# Altium schematic symbol library NEUDOSE-Components.SchLib: 26 symbols
Pins are listed as number, name and electrical type; pins without a type are passive.

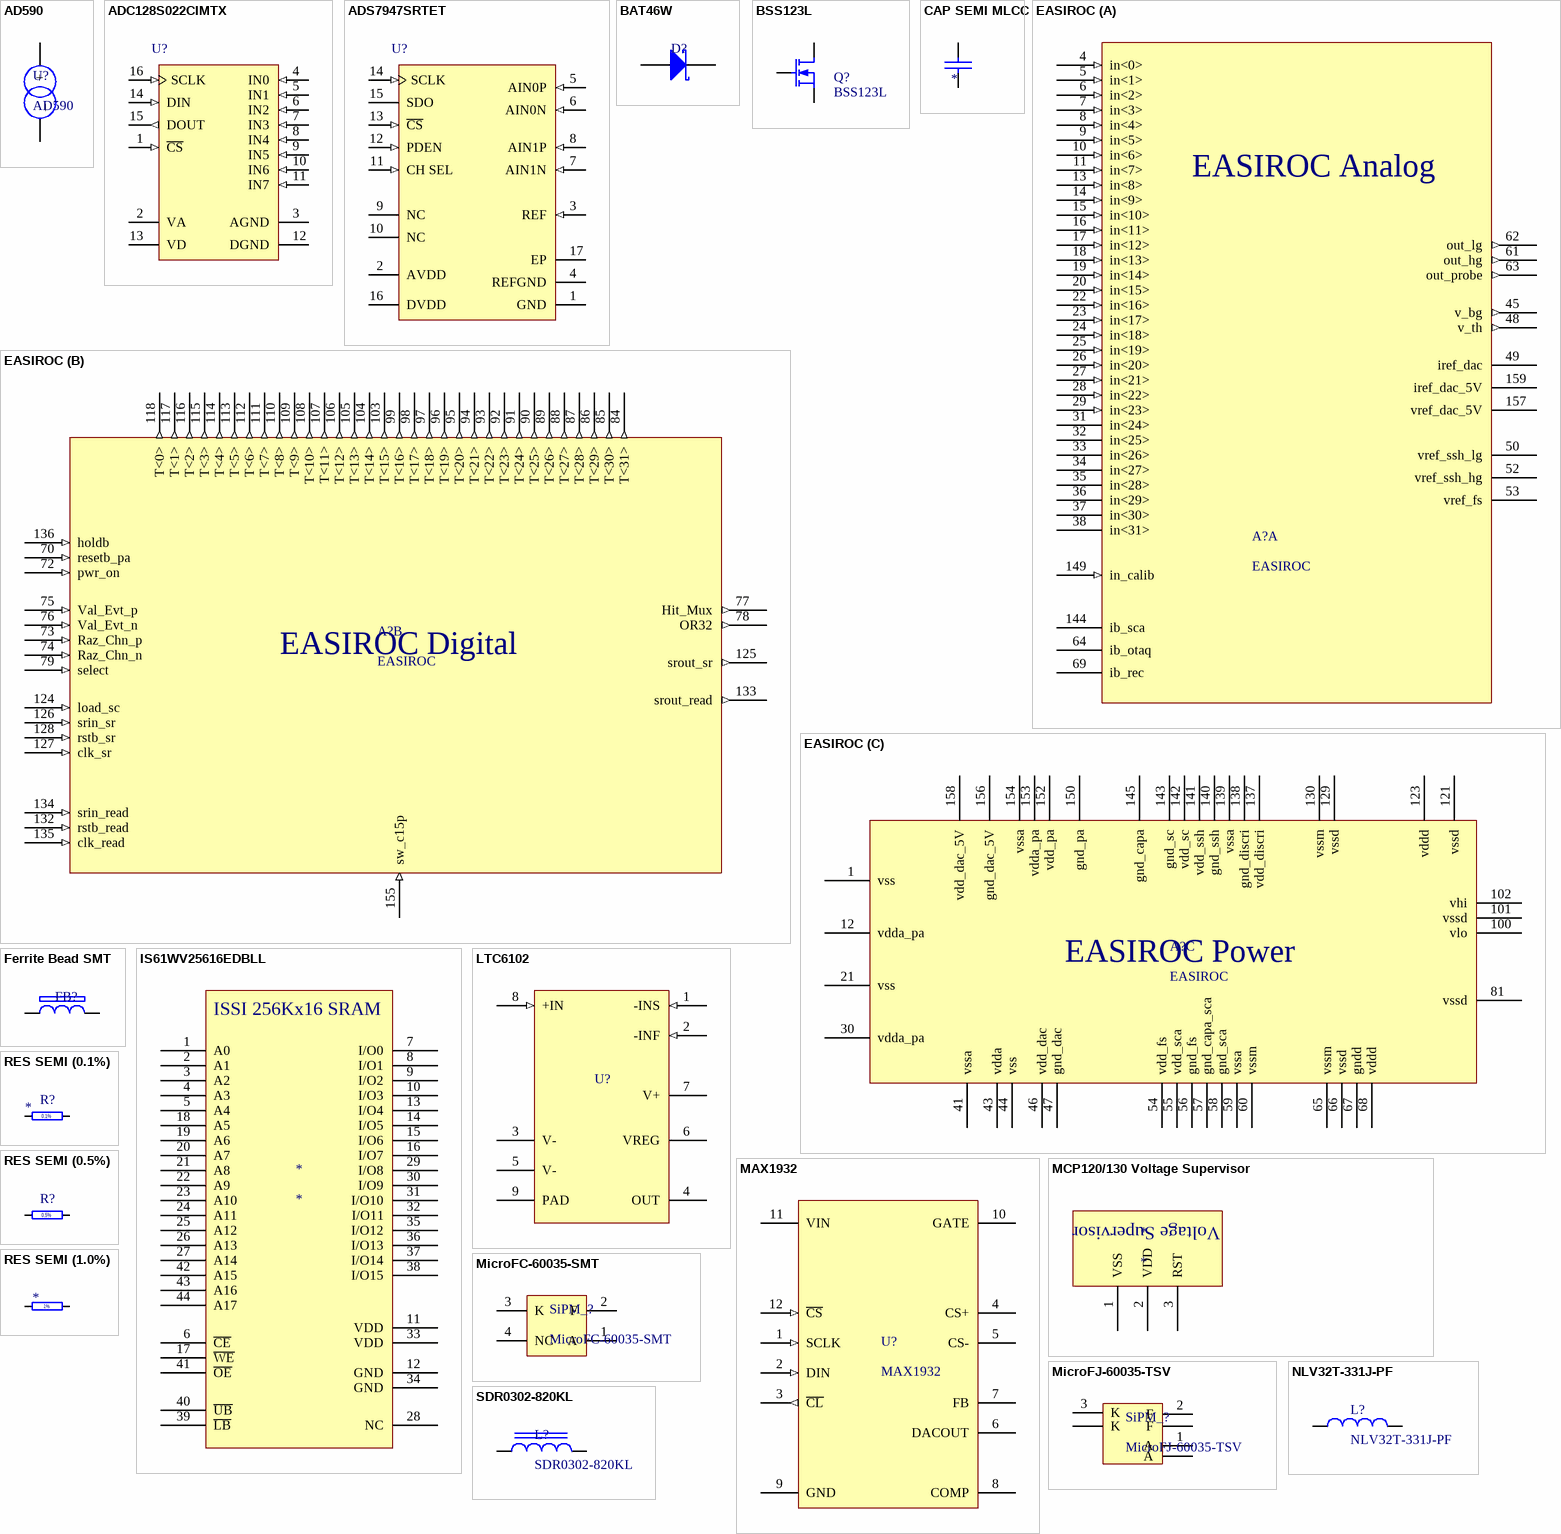
[diagram p0: symbols AD590 to SDR0302-820KL]

## AD590
designator U?
Manufacturer: Analog Devices Inc.; Manufacturer Part Number: AD590LF; Sensor Type: Analog, Local; Sensing Temperature - Local: -55°C ~ 150°C; Output Type: Ratiometric, Current; Voltage - Supply: 4 V ~ 30 V; Accuracy - Highest (Lowest): ±1°C; Test Condition: 25°C; Supplier 1: Digi-Key; RoHS: RoHS Compliant; Category: Sensors, Transducers; Stock 1: 612; Pricing 1: 1=47.63, 10=44.438, 100=38.5838, 500=35.39064, 1000=34.06016, 2500=33.612 (USD); Packaging: Tube; Sensing Temperature - Remote: -; Resolution: -; Features: -; Operating Temperature: -55°C ~ 125°C; Package / Case: 2-Ceramic FLATPACK; Supplier Device Package: 2-Flatpack; ComponentLink1URL: http://www.analog.com/media/en/technical-documentation/data-sheets/AD590.pdf; ComponentLink1Description: http://www.analog.com/media/en/technical-documentation/data-sheets/AD590.pdf; Supplier Part Number 1: AD590LF-ND
footprint AD590JF/AD590KF/AD590LF/AD590MF (SENSOR TEMP RATIOMETRIC 2-Ceramic FLATPACK)
pins: 1 + (oc), 2 _ (oc)

## ADC128S022CIMTX
designator U?
8-Channel, 50 kSPS to 200 kSPS, 12-Bit A/D Converter, 16-pin TSSOP; PartNumber: ADC128S022CIMTX; Manufacturer: National Semiconductor; PackageTopMarking: NSUZXYTT*128S022*CIMT; PowerWise: Y; CompType: ADC IC; DatasheetVersion: Feb-2010; PackageVersion: revD, Jun-2003; PackageReference: MTC16; PackageDescription: Molded TSSOP, Jedec, 5 x 4.4 x 0.9mm Body, 16 Lead, 0.65mm Pitch; RoHS: N; PinCount: 16; High-Reliability: Y; Code_JEDEC: MO-153-AB; ComponentLink1Description: ADC128S022 Datasheet; ComponentLink1URL: http://www.national.com/ds/AD/ADC128S022.pdf; ComponentLink2Description: ADC128S022 Web Page; ComponentLink2URL: http://www.national.com/pf/AD/ADC128S022.html; ComponentLink3Description: MTC16 Package Page; ComponentLink3URL: http://www.national.com/packaging/folders/mtc16.html
footprint TSSOP_16_N (TSOP, 16-Leads, Body 5x4.4mm, Pitch 0.65mm, IPC Medium Density)
footprint TSSOP_16_M (TSOP, 16-Leads, Body 5x4.4mm, Pitch 0.65mm, IPC Low Density)
footprint TSSOP_16_L (TSOP, 16-Leads, Body 5x4.4mm, Pitch 0.65mm, IPC High Density)
pins: 1 ~{CS} (in), 2 VA (power), 3 AGND (power), 4 IN0 (in), 5 IN1 (in), 6 IN2 (in), 7 IN3 (in), 8 IN4 (in), 9 IN5 (in), 10 IN6 (in), 11 IN7 (in), 12 DGND (power), 13 VD (power), 14 DIN (in), 15 DOUT (out), 16 SCLK (in)

## ADS7947SRTET
designator U?
12-Bit, 2 MSPS, Dual Channel, Pseudo-Differential uPower Serial SAR ADC, -40 to 125 degC, 16-pin QFN (RTE16), Green (RoHS & no Sb/Br); Manufacturer: Texas Instruments; PartNumber: ADS7947SRTET; # Input Channels: 2; Analog Voltage AV/DD(Max)(V): 5.5; Analog Voltage AV/DD(Min)(V): 2.7; Digital Supply(Min)(V): 1.65; INL(Max)(+/-LSB): 1; Resolution(Bits): 12; Sample Rate (max)(SPS): 2M; SFDR(dB): 86; SINAD(dB): 72.75; SNR(dB): 73; SubFamily: Precision ADC (<=10MSPS); DatasheetVersion: SLAS708; PackageVersion: 4205254/D, 01/2011; PackageReference: RTE16-1700X1700TP; PackageDescription: 16-Pin Plastic Flat Pack, Body 3 x 3 mm, Pitch 0.5 mm; Supplier 1: Digi-Key; Supplier Part Number 1: ADS7844NB/1KG4-ND; Supplier 2: Mouser; Supplier Part Number 2: 595-ADS7844NB/1KG4; Architecture: SAR; Digital Supply(Max)(V): 5.5; Eco-Plan: Green (RoHS & no Sb/Br); Mounting Technology: Surface Mount; Code_JEDEC: MO-220; ComponentLink1Description: Manufacturer URL; ComponentLink1URL: http://www.ti.com/; ComponentLink2Description: Datasheet; ComponentLink2URL: http://www.ti.com/general/docs/lit/getliterature.tsp?genericPartNumber=ADS7947&fileType=pdf; ComponentLink3Description: Package Specification; ComponentLink3URL: http://www.ti.com/litv/pdf/mpqf149c
footprint TI-RTE16-1700X1700TP_V (QFN, 16-Leads, Body 3x3mm, Pitch 0.5mm, Thermal Pad 1.7x1.7mm)
pins: 1 GND (power) "Power supply ground; all analog and digital signals are referred with respect to this pin", 2 AVDD (power) "ADC power supply", 3 REF (in) "ADC positive reference input; decouple this pin with REFGND", 4 REFGND (power) "Reference return; short to analog ground plane", 5 AIN0P (in) "Positive analog input, channel 0", 6 AIN0N (in) "Negative analog input, channel 0", 7 AIN1N (in) "Negative analog input, channel 1", 8 AIN1P (in) "Positive analog input, channel 1", 9 NC "Not connected internally, it is recommended to externally short this pin to GND", 10 NC "Not connected internally, it is recommended to externally short this pin to GND", 11 CH SEL (in) "This pin selects the analog input channel. Low = Channel 0 High = Channel 1 It is recommended to change the channel within a window of one clock; from half a clock after the C\S\ falling edge. This change ensures the (See Datasheet)", 12 PDEN (in) "This pin enables a power-down feature if it is high at the C\S\ rising edge", 13 ~{CS} (in) "Chip select signal; active low", 14 SCLK (in) "Serial SPI clock", 15 SDO (hiz) "Serial data out", 16 DVDD (power) "Digital I/O supply", 17 EP

## BAT46W
designator D?  (value not drawn)
DIODE SCHOTTKY 100V 150MA SOD123; Manufacturer: Diodes Incorporated; Manufacturer Part Number: BAT46W-7-F; Current - Average Rectified (Io): 150mA (DC); Voltage - Forward (Vf) (Max) @ If: 450mV @ 10mA; Speed: Small Signal =< 200mA (Io), Any Speed; Current - Reverse Leakage @ Vr: 2µA @ 75V; Capacitance @ Vr, F: 20pF @ 0V, 1MHz; Supplier 1: Digi-Key; RoHS: RoHS Compliant; Category: Discrete Semiconductor Products; Stock 1: 67354; Pricing 1: 1=0.38, 10=0.283, 100=0.1764, 500=0.1206, 1000=0.0927 (USD); Packaging: Cut Tape (CT); Diode Type: Schottky; Voltage - DC Reverse (Vr) (Max): 100V; Reverse Recovery Time (trr): -; Mounting Type: Surface Mount; Package / Case: SOD-123; Supplier Device Package: SOD-123; Operating Temperature - Junction: -55°C ~ 125°C; ComponentLink1URL: http://www.diodes.com/_files/datasheets/ds30044.pdf; ComponentLink1Description: http://www.diodes.com/_files/datasheets/ds30044.pdf; Supplier Part Number 1: BAT46W-7FDICT-ND
footprint SOD-123 (SOD-123, 2-Leads, Body 1.60x3.70mm, IPC Low Density)
pins: 1 K, 2 A

## BSS123L
designator Q?
MOSFET N-CH 100V 0.17A SOT-23; Manufacturer: Fairchild Semiconductor; FET Type: MOSFET N-Channel, Metal Oxide; FET Feature: Logic Level Gate; Current - Continuous Drain (Id) @ 25°C: 170mA (Ta); Rds On (Max) @ Id, Vgs: 6 Ohm @ 170mA, 10V; Vgs(th) (Max) @ Id: 2V @ 1mA; Gate Charge (Qg) @ Vgs: 2.5nC @ 10V; Input Capacitance (Ciss) @ Vds: 21.5pF @ 25V; Power - Max: 360mW; Supplier 1: Digi-Key; Manufacturer Part Number: BSS123L; RoHS: RoHS Compliant; Category: Discrete Semiconductor Products; Stock 1: 4356; Pricing 1: 1=0.21, 10=0.189, 100=0.1032, 500=0.06342, 1000=0.04326 (USD); Packaging: Cut Tape (CT); Drain to Source Voltage (Vdss): 100V; Mounting Type: Surface Mount; Package / Case: TO-236-3, SC-59, SOT-23-3; Supplier Device Package: SOT-23-3; ComponentLink1URL: https://www.fairchildsemi.com/datasheets/BS/BSS123L.pdf; ComponentLink1Description: https://www.fairchildsemi.com/datasheets/BS/BSS123L.pdf; Supplier Part Number 1: BSS123LCT-ND
footprint SOT-23-3 (SOT23, 3-Leads, Body 2.90x2.45mm, Pitch 0.95mm, IPC Medium Density)
pins: 1 D, 2 G, 3 S

## CAP SEMI MLCC
designator C?
value: *
footprint CAP_0603 (Chip Capacitor, 2-Leads, Body 1.60x0.80mm, IPC Low Density)
footprint CAP_0805 (Chip Capacitor, 2-Leads, Body 2.00x1.25mm, IPC Low Density)
footprint CAP_1206 (Chip Capacitor, 2-Leads, Body 3.20x1.60mm, IPC Low Density)
footprint CAP_0402 (Chip Capacitor, 2-Leads, Body 1.00x0.50mm, IPC Low Density)
pins: 1, 2

## EASIROC
designator A?
footprint TQFP160-65P (TQFP (adapted from pqfp footprint), 160-Leads, Body 28.00x28.00mm, Pitch 0.65mm, IPC Medium Density)
part A pins: 4 in<0> (in), 5 in<1> (in), 6 in<2> (in), 7 in<3> (in), 8 in<4> (in), 9 in<5> (in), 10 in<6> (in), 11 in<7> (in), 13 in<8> (in), 14 in<9> (in), 15 in<10> (in), 16 in<11> (in), 17 in<12> (in), 18 in<13> (in), 19 in<14> (in), 20 in<15> (in), 22 in<16> (in), 23 in<17> (in), 24 in<18> (in), 25 in<19> (in), 26 in<20> (in), 27 in<21> (in), 28 in<22> (in), 29 in<23> (in), 31 in<24> (power), 32 in<25> (power), 33 in<26> (power), 34 in<27> (power), 35 in<28> (power), 36 in<29> (power), 37 in<30> (power), 38 in<31> (power), 45 v_bg (out), 48 v_th (out), 49 iref_dac, 50 vref_ssh_lg, 52 vref_ssh_hg, 53 vref_fs, 61 out_hg (out), 62 out_lg (out), 63 out_probe (out), 64 ib_otaq, 69 ib_rec, 144 ib_sca, 149 in_calib (in), 157 vref_dac_5V, 159 iref_dac_5V
part B pins: 70 resetb_pa (in), 72 pwr_on (in), 73 Raz_Chn_p (in), 74 Raz_Chn_n (in), 75 Val_Evt_p (in), 76 Val_Evt_n (in), 77 Hit_Mux (out), 78 OR32 (out), 79 select (in), 84 T<31> (out), 85 T<30> (out), 86 T<29> (out), 87 T<28> (out), 88 T<27> (out), 89 T<26> (out), 90 T<25> (out), 91 T<24> (out), 92 T<23> (out), 93 T<22> (out), 94 T<21> (out), 95 T<20> (out), 96 T<19> (out), 97 T<18> (out), 98 T<17> (out), 99 T<16> (out), 103 T<15> (out), 104 T<14> (out), 105 T<13> (out), 106 T<12> (out), 107 T<11> (out), 108 T<10> (out), 109 T<9> (out), 110 T<8> (out), 111 T<7> (out), 112 T<6> (out), 113 T<5> (out), 114 T<4> (out), 115 T<3> (out), 116 T<2> (out), 117 T<1> (out), 118 T<0> (out), 124 load_sc (in), 125 srout_sr (out), 126 srin_sr (in), 127 clk_sr (in), 128 rstb_sr (in), 132 rstb_read (in), 133 srout_read (out), 134 srin_read (in), 135 clk_read (in), 136 holdb (in), 155 sw_c15p (in)
part C pins: 1 vss (power), 12 vdda_pa (power), 21 vss (power), 30 vdda_pa (power), 41 vssa (power), 43 vdda (power), 44 vss (power), 46 vdd_dac (power), 47 gnd_dac (power), 54 vdd_fs (power), 55 vdd_sca (power), 56 gnd_fs (power), 57 gnd_capa_sca (power), 58 gnd_sca (power), 59 vssa (power), 60 vssm (power), 65 vssm (power), 66 vssd (power), 67 gndd (power), 68 vddd (power), 81 vssd (power), 100 vlo (power), 101 vssd (power), 102 vhi (power), 121 vssd (power), 123 vddd (power), 129 vssd (power), 130 vssm (power), 137 vdd_discri (power), 138 gnd_discri (power), 139 vssa (power), 140 gnd_ssh (power), 141 vdd_ssh (power), 142 vdd_sc (power), 143 gnd_sc (power), 145 gnd_capa (power), 150 gnd_pa (power), 152 vdd_pa (power), 153 vdda_pa (power), 154 vssa (power), 156 gnd_dac_5V (power), 158 vdd_dac_5V (power)
part A text: EASIROC Analog
part B text: EASIROC Digital
part C text: EASIROC Power

## Ferrite Bead SMT
designator FB?  (value not drawn)
footprint IND_0603 (Chip Inductor, 2-Leads, Body 1.60x0.82mm, IPC Low Density)
footprint IND_0805 (Chip Inductor, 2-Leads, Body 2.00x1.25mm, IPC Low Density)
footprint IND_1210 (Chip Inductor, 2-Leads, Body 3.20x2.50mm, IPC Low Density)
pins: 1, 2

## IS61WV25616EDBLL
designator *
pins: 1 A0, 2 A1, 3 A2, 4 A3, 5 A4, 6 ~{CE}, 7 I/O0, 8 I/O1, 9 I/O2, 10 I/O3, 11 VDD, 12 GND, 13 I/O4, 14 I/O5, 15 I/O6, 16 I/O7, 17 ~{WE}, 18 A5, 19 A6, 20 A7, 21 A8, 22 A9, 23 A10, 24 A11, 25 A12, 26 A13, 27 A14, 28 NC, 29 I/O8, 30 I/O9, 31 I/O10, 32 I/O11, 33 VDD, 34 GND, 35 I/O12, 36 I/O13, 37 I/O14, 38 I/O15, 39 ~{LB}, 40 ~{UB}, 41 ~{OE}, 42 A15, 43 A16, 44 A17
text: ISSI 256Kx16 SRAM

## LTC6102
designator U?  (value not drawn)
IC OPAMP CURR SENSE 200KHZ 8DFN; Manufacturer: Linear Technology; Manufacturer Part Number: LTC6102HDD#PBF; Amplifier Type: Current Sense; Number of Circuits: 1; Current - Input Bias: 60pA; Voltage - Input Offset: 3µV; Current - Supply: 420µA; Current - Output / Channel: 1mA; Voltage - Supply, Single/Dual (±): 4 V ~ 60 V; Supplier 1: Digi-Key; RoHS: RoHS Compliant; Category: Integrated Circuits (ICs); Stock 1: 161; Pricing 1: 1=4.57, 25=3.24, 100=2.68 (USD); Packaging: Tube; Output Type: -; Slew Rate: -; Gain Bandwidth Product: 200kHz; -3db Bandwidth: -; Operating Temperature: -40°C ~ 125°C; Mounting Type: Surface Mount; Package / Case: 8-WFDFN Exposed Pad; Supplier Device Package: 8-DFN (3x3); ComponentLink1URL: http://www.linear.com/docs/25174; ComponentLink1Description: http://www.linear.com/docs/25174; Supplier Part Number 1: LTC6102HDD#PBF-ND
footprint 8-WFDFN Exposed Pad (SON, 8-Leads, Body 3.00x3.00mm, Pitch 0.50mm, Thermal Pad 2.38x0.99mm, IPC Medium Density)
pins: 1 -INS (in), 2 -INF (in), 3 V- (power), 4 OUT (oc), 5 V- (power), 6 VREG (power), 7 V+ (power), 8 +IN (in), 9 PAD (power)

## MAX1932
designator U?
IC SUPPLY BIAS APD 12-TQFN; Manufacturer: Maxim Integrated; Manufacturer Part Number: MAX1932ETC+T; Voltage - Input: 2.7 V ~ 5.5 V; Number of Outputs: 1; Voltage - Output: 4.5 V ~ 90 V; Supplier 1: Digi-Key; RoHS: RoHS Compliant; Category: Integrated Circuits (ICs); Stock 1: 2447; Pricing 1: 1=11.03, 10=10.404, 25=8.3232, 50=7.907, 100=7.2828, 250=6.90824, 500=6.65856 (USD); Packaging: Cut Tape (CT); Applications: Controller, Fiber Optic Network; Operating Temperature: -40°C ~ 85°C; Mounting Type: Surface Mount; Package / Case: 12-WQFN Exposed Pad; Supplier Device Package: 12-TQFN (4x4); ComponentLink1URL: http://datasheets.maximintegrated.com/en/ds/MAX1932.pdf; ComponentLink1Description: http://datasheets.maximintegrated.com/en/ds/MAX1932.pdf; Supplier Part Number 1: MAX1932ETC+TCT-ND
footprint QFN80P400X400X75_HS-13N (QFN, 12-Leads, Body 4.00x4.00mm, Pitch 0.80mm, Thermal Pad 2.23x2.23mm, IPC Medium Density)
pins: 1 SCLK (in), 2 DIN (in), 3 ~{CL} (out), 4 CS+, 5 CS-, 6 DACOUT, 7 FB, 8 COMP, 9 GND (power), 10 GATE, 11 VIN (power), 12 ~{CS} (in)

## MCP120/130 Voltage Supervisor
designator *
pins: 1 VSS "Xdir", 2 VDD "Xdir", 3 RST "Xdir"
text: Voltage Supervisor

## MicroFC-60035-SMT
designator SiPM_?
SensL C-Series 6mm SiPM with 35um microcells
footprint MicroFC-60035-SMT (SensL C-Series Micro-C Silicon Photomultipliers)
pins: 1 A (oc) "Anode", 2 F (oc) "Fast Output", 3 K (oc) "Cathode", 4 NC

## MicroFJ-60035-TSV
designator SiPM_?
SensL J-Series 6mm SiPM with 35um microcells
footprint MicroFJ-60035-TSV (SensL J-Series Micro-J Silicon Photomultipliers); pin to pad 1>C1 2>C6 3>A1 4>D1 5>D6 6>F6
pins: 1 A (oc) "Cathode", 2 F (oc) "Fast Output", 3 K (oc) "Anode", 4 A (oc) "Cathode", 5 F (oc) "Fast Output", 6 K (oc) "Anode"

## NLV32T-331J-PF
designator L?
FIXED IND 330UH 40MA 34 OHM SMD; Manufacturer: TDK Corporation; Type: Wirewound; Material - Core: Ferrite; Inductance: 330µH; Tolerance: ±5%; Shielding: Unshielded; DC Resistance (DCR): 34 Ohm Max; Q @ Freq: 20 @ 796kHz; Frequency - Self Resonant: 5MHz; Frequency - Test: 796kHz; Supplier 1: Digi-Key; Manufacturer Part Number: NLV32T-331J-PF; RoHS: RoHS Compliant; Category: Inductors, Coils, Chokes; Stock 1: 5790; Pricing 1: 1=0.27, 10=0.243, 50=0.1886, 100=0.1752, 500=0.15362, 1000=0.12397 (USD); Packaging: Cut Tape (CT); Current Rating: 40mA; Current - Saturation: -; Ratings: -; Operating Temperature: -40°C ~ 105°C; Mounting Type: Surface Mount; Package / Case: 1210 (3225 Metric); Size / Dimension: 0.126" L x 0.098" W (3.20mm x 2.50mm); Height - Seated (Max): 0.095" (2.40mm); ComponentLink1URL: https://product.tdk.com/info/en/catalog/datasheets/inductor_commercial_standard_nlv32-pf_en.pdf; ComponentLink1Description: https://product.tdk.com/info/en/catalog/datasheets/inductor_commercial_standard_nlv32-pf_en.pdf; Supplier Part Number 1: 445-1532-1-ND
footprint IND_1210 (Chip Inductor, 2-Leads, Body 3.20x2.50mm, IPC Low Density)
pins: 1, 2

## RES SEMI (0.1%)
designator R?
0.1%; value: *
footprint RES_0603 (Chip Resistor, 2-Leads, Body 1.60x0.82mm, IPC Low Density)
footprint RES_0805 (Chip Resistor, 2-Leads, Body 2.00x1.25mm, IPC Low Density)
footprint RES_1206 (Chip Resistor, 2-Leads, Body 3.20x1.60mm, IPC Low Density)
footprint RES_0402 (Chip Resistor, 2-Leads, Body 1.00x0.50mm)
pins: 1, 2

## RES SEMI (0.5%)
designator R?  (value not drawn)
0.5%
footprint RES_0603 (Chip Resistor, 2-Leads, Body 1.60x0.82mm, IPC Low Density)
footprint RES_0805 (Chip Resistor, 2-Leads, Body 2.00x1.25mm, IPC Low Density)
footprint RES_1206 (Chip Resistor, 2-Leads, Body 3.20x1.60mm, IPC Low Density)
footprint RES_0402 (Chip Resistor, 2-Leads, Body 1.00x0.50mm)
pins: 1, 2

## RES SEMI (1.0%)
designator R?
1.0%; value: *
footprint RES_0603 (Chip Resistor, 2-Leads, Body 1.60x0.82mm, IPC Low Density)
footprint RES_0805 (Chip Resistor, 2-Leads, Body 2.00x1.25mm, IPC Low Density)
footprint RES_1206 (Chip Resistor, 2-Leads, Body 3.20x1.60mm, IPC Low Density)
footprint RES_0402 (Chip Resistor, 2-Leads, Body 1.00x0.50mm)
pins: 1, 2
text: 1%

## SDR0302-820KL
designator L?
FIXED IND 82UH 280MA 2.1 OHM SMD; Manufacturer: Bourns Inc.; Type: Wirewound; Material - Core: Ferrite; Inductance: 82µH; Tolerance: ±10%; Current - Saturation: 300mA; Shielding: Unshielded; DC Resistance (DCR): 2.1 Ohm Max; Q @ Freq: 24 @ 2.52MHz; Frequency - Self Resonant: 12MHz; Frequency - Test: 1kHz; Supplier 1: Digi-Key; Manufacturer Part Number: SDR0302-820KL; RoHS: RoHS Compliant; Category: Inductors, Coils, Chokes; Stock 1: 5130; Pricing 1: 1=0.47, 10=0.416, 25=0.39, 50=0.338, 100=0.312, 250=0.2964, 500=0.2704, 1000=0.2288 (USD); Packaging: Cut Tape (CT); Current Rating: 280mA; Ratings: -; Operating Temperature: -40°C ~ 125°C; Mounting Type: Surface Mount; Package / Case: Nonstandard; Size / Dimension: 0.118" L x 0.110" W (3.00mm x 2.80mm); Height - Seated (Max): 0.110" (2.80mm); ComponentLink1URL: http://www.bourns.com/docs/Product-Datasheets/SDR0302.pdf; ComponentLink1Description: http://www.bourns.com/docs/Product-Datasheets/SDR0302.pdf; Supplier Part Number 1: SDR0302-820KLCT-ND
footprint IND_BOURNS_SDR03
pins: 1, 2

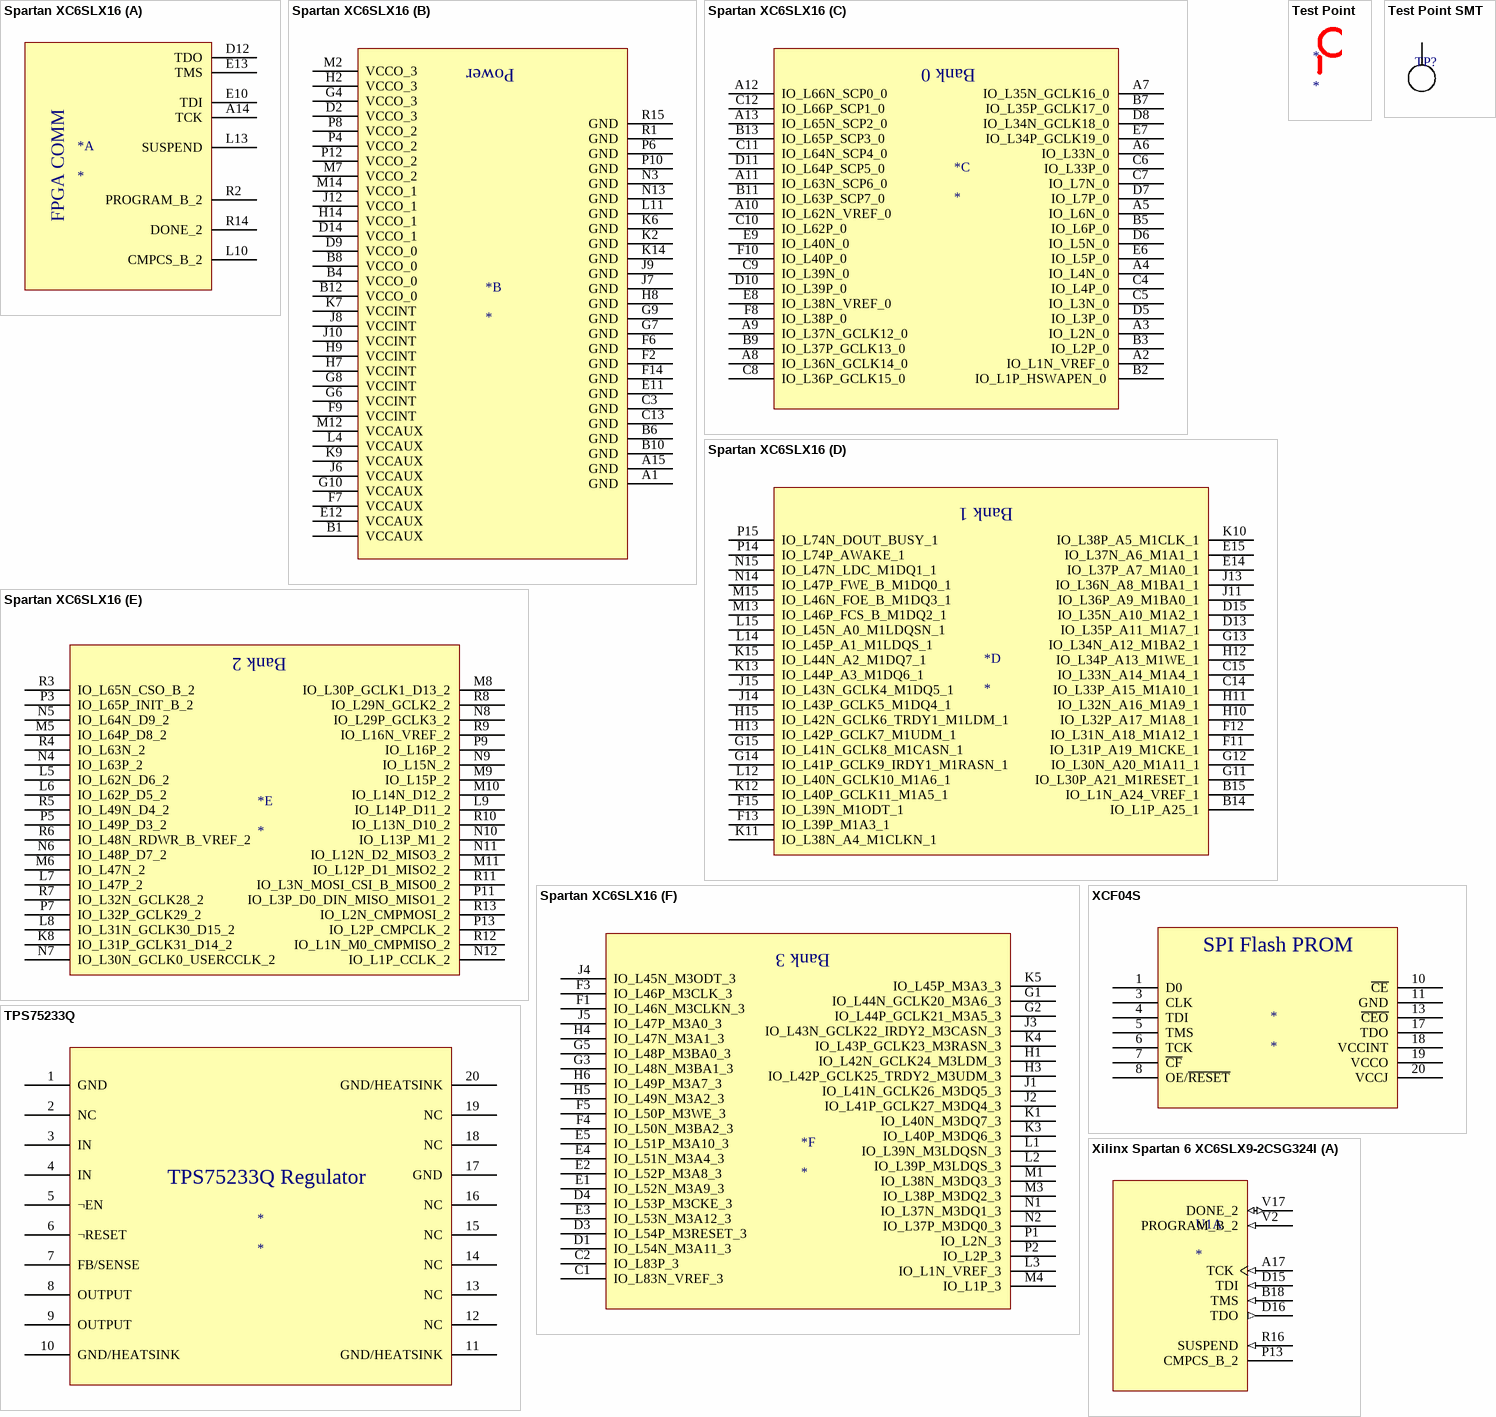
[diagram p1: symbols Spartan XC6SLX16 to Xilinx Spartan 6 XC6SLX9-2CSG324I]

## Spartan XC6SLX16
designator *
part A pins: A14 TCK, D12 TDO, E10 TDI, E13 TMS, L10 CMPCS_B_2, L13 SUSPEND, R2 PROGRAM_B_2, R14 DONE_2
part B pins: A1 GND, A15 GND, B1 VCCAUX, B4 VCCO_0, B6 GND, B8 VCCO_0, B10 GND, B12 VCCO_0, C3 GND, C13 GND, D2 VCCO_3, D9 VCCO_0, D14 VCCO_1, E11 GND, E12 VCCAUX, F2 GND, F6 GND, F7 VCCAUX, F9 VCCINT, F14 GND, G4 VCCO_3, G6 VCCINT, G7 GND, G8 VCCINT, G9 GND, G10 VCCAUX, H2 VCCO_3, H7 VCCINT, H8 GND, H9 VCCINT, H14 VCCO_1, J6 VCCAUX, J7 GND, J8 VCCINT, J9 GND, J10 VCCINT, J12 VCCO_1, K2 GND, K6 GND, K7 VCCINT, K9 VCCAUX, K14 GND, L4 VCCAUX, L11 GND, M2 VCCO_3, M7 VCCO_2, M12 VCCAUX, M14 VCCO_1, N3 GND, N13 GND, P4 VCCO_2, P6 GND, P8 VCCO_2, P10 GND, P12 VCCO_2, R1 GND, R15 GND
part C pins: A2 IO_L1N_VREF_0, A3 IO_L2N_0, A4 IO_L4N_0, A5 IO_L6N_0, A6 IO_L33N_0, A7 IO_L35N_GCLK16_0, A8 IO_L36N_GCLK14_0, A9 IO_L37N_GCLK12_0, A10 IO_L62N_VREF_0, A11 IO_L63N_SCP6_0, A12 IO_L66N_SCP0_0, A13 IO_L65N_SCP2_0, B2 IO_L1P_HSWAPEN_0 , B3 IO_L2P_0, B5 IO_L6P_0, B7 IO_L35P_GCLK17_0, B9 IO_L37P_GCLK13_0, B11 IO_L63P_SCP7_0, B13 IO_L65P_SCP3_0, C4 IO_L4P_0, C5 IO_L3N_0, C6 IO_L33P_0, C7 IO_L7N_0, C8 IO_L36P_GCLK15_0, C9 IO_L39N_0, C10 IO_L62P_0, C11 IO_L64N_SCP4_0, C12 IO_L66P_SCP1_0, D5 IO_L3P_0, D6 IO_L5N_0, D7 IO_L7P_0, D8 IO_L34N_GCLK18_0, D10 IO_L39P_0, D11 IO_L64P_SCP5_0, E6 IO_L5P_0, E7 IO_L34P_GCLK19_0, E8 IO_L38N_VREF_0, E9 IO_L40N_0, F8 IO_L38P_0, F10 IO_L40P_0
part D pins: B14 IO_L1P_A25_1, B15 IO_L1N_A24_VREF_1, C14 IO_L33P_A15_M1A10_1, C15 IO_L33N_A14_M1A4_1, D13 IO_L35P_A11_M1A7_1, D15 IO_L35N_A10_M1A2_1, E14 IO_L37P_A7_M1A0_1, E15 IO_L37N_A6_M1A1_1, F11 IO_L31P_A19_M1CKE_1, F12 IO_L31N_A18_M1A12_1, F13 IO_L39P_M1A3_1, F15 IO_L39N_M1ODT_1, G11 IO_L30P_A21_M1RESET_1, G12 IO_L30N_A20_M1A11_1, G13 IO_L34N_A12_M1BA2_1, G14 IO_L41P_GCLK9_IRDY1_M1RASN_1, G15 IO_L41N_GCLK8_M1CASN_1, H10 IO_L32P_A17_M1A8_1, H11 IO_L32N_A16_M1A9_1, H12 IO_L34P_A13_M1WE_1, H13 IO_L42P_GCLK7_M1UDM_1, H15 IO_L42N_GCLK6_TRDY1_M1LDM_1, J11 IO_L36P_A9_M1BA0_1, J13 IO_L36N_A8_M1BA1_1, J14 IO_L43P_GCLK5_M1DQ4_1, J15 IO_L43N_GCLK4_M1DQ5_1, K10 IO_L38P_A5_M1CLK_1, K11 IO_L38N_A4_M1CLKN_1, K12 IO_L40P_GCLK11_M1A5_1, K13 IO_L44P_A3_M1DQ6_1, K15 IO_L44N_A2_M1DQ7_1, L12 IO_L40N_GCLK10_M1A6_1, L14 IO_L45P_A1_M1LDQS_1, L15 IO_L45N_A0_M1LDQSN_1, M13 IO_L46P_FCS_B_M1DQ2_1, M15 IO_L46N_FOE_B_M1DQ3_1, N14 IO_L47P_FWE_B_M1DQ0_1, N15 IO_L47N_LDC_M1DQ1_1, P14 IO_L74P_AWAKE_1, P15 IO_L74N_DOUT_BUSY_1
part E pins: K8 IO_L31P_GCLK31_D14_2, L5 IO_L62N_D6_2, L6 IO_L62P_D5_2, L7 IO_L47P_2, L8 IO_L31N_GCLK30_D15_2, L9 IO_L14P_D11_2, M5 IO_L64P_D8_2, M6 IO_L47N_2, M8 IO_L30P_GCLK1_D13_2, M9 IO_L15P_2, M10 IO_L14N_D12_2, M11 IO_L12P_D1_MISO2_2, N4 IO_L63P_2, N5 IO_L64N_D9_2, N6 IO_L48P_D7_2, N7 IO_L30N_GCLK0_USERCCLK_2, N8 IO_L29P_GCLK3_2, N9 IO_L15N_2, N10 IO_L13P_M1_2, N11 IO_L12N_D2_MISO3_2, N12 IO_L1P_CCLK_2, P3 IO_L65P_INIT_B_2, P5 IO_L49P_D3_2, P7 IO_L32P_GCLK29_2, P9 IO_L16P_2, P11 IO_L3P_D0_DIN_MISO_MISO1_2, P13 IO_L2P_CMPCLK_2, R3 IO_L65N_CSO_B_2, R4 IO_L63N_2, R5 IO_L49N_D4_2, R6 IO_L48N_RDWR_B_VREF_2, R7 IO_L32N_GCLK28_2, R8 IO_L29N_GCLK2_2, R9 IO_L16N_VREF_2, R10 IO_L13N_D10_2, R11 IO_L3N_MOSI_CSI_B_MISO0_2, R12 IO_L1N_M0_CMPMISO_2, R13 IO_L2N_CMPMOSI_2
part F pins: C1 IO_L83N_VREF_3, C2 IO_L83P_3, D1 IO_L54N_M3A11_3, D3 IO_L54P_M3RESET_3, D4 IO_L53P_M3CKE_3, E1 IO_L52N_M3A9_3, E2 IO_L52P_M3A8_3, E3 IO_L53N_M3A12_3, E4 IO_L51N_M3A4_3, E5 IO_L51P_M3A10_3, F1 IO_L46N_M3CLKN_3, F3 IO_L46P_M3CLK_3, F4 IO_L50N_M3BA2_3, F5 IO_L50P_M3WE_3, G1 IO_L44N_GCLK20_M3A6_3, G2 IO_L44P_GCLK21_M3A5_3, G3 IO_L48N_M3BA1_3, G5 IO_L48P_M3BA0_3, H1 IO_L42N_GCLK24_M3LDM_3, H3 IO_L42P_GCLK25_TRDY2_M3UDM_3, H4 IO_L47N_M3A1_3, H5 IO_L49N_M3A2_3, H6 IO_L49P_M3A7_3, J1 IO_L41N_GCLK26_M3DQ5_3, J2 IO_L41P_GCLK27_M3DQ4_3, J3 IO_L43N_GCLK22_IRDY2_M3CASN_3, J4 IO_L45N_M3ODT_3, J5 IO_L47P_M3A0_3, K1 IO_L40N_M3DQ7_3, K3 IO_L40P_M3DQ6_3, K4 IO_L43P_GCLK23_M3RASN_3, K5 IO_L45P_M3A3_3, L1 IO_L39N_M3LDQSN_3, L2 IO_L39P_M3LDQS_3, L3 IO_L1N_VREF_3, M1 IO_L38N_M3DQ3_3, M3 IO_L38P_M3DQ2_3, M4 IO_L1P_3, N1 IO_L37N_M3DQ1_3, N2 IO_L37P_M3DQ0_3, P1 IO_L2N_3, P2 IO_L2P_3
part A text: FPGA COMM
part B text: Power
part C text: Bank 0
part D text: Bank 1
part E text: Bank 2
part F text: Bank 3

## Test Point
designator *

## Test Point SMT
designator TP?  (value not drawn)
Manufacturer: Keystone Electronics; Manufacturer Part Number: 5015; Supplier 1: Digi-Key; RoHS: RoHS Compliant; Category: Test and Measurement; Stock 1: 619592; Pricing 1: 1=0.43, 10=0.408, 50=0.2974, 100=0.2858, 250=0.25664, 500=0.24498 (USD); Packaging: Cut Tape (CT); Type: PC Test Point, Miniature; Terminal: 0.010" (0.25mm) Phosphor Bronze, Silver Plated; Mounting Type: Surface Mount; Material: Phosphor Bronze; Color: -; ComponentLink1URL: http://www.keyelco.com/product-pdf.cfm?p=1353; ComponentLink1Description: http://www.keyelco.com/product-pdf.cfm?p=1353; Supplier Part Number 1: 36-5015CT-ND
footprint KEYSTONE 5015 TESTPOINT (TEST POINT PC MINIATURE SMT)
pins: 1 (oc)

## TPS75233Q
designator *
pins: 1 GND (power), 2 NC (power), 3 IN (power), 4 IN (power), 5 ¬EN (power), 6 ¬RESET (power), 7 FB/SENSE (power), 8 OUTPUT (power), 9 OUTPUT (power), 10 GND/HEATSINK (power), 11 GND/HEATSINK (power), 12 NC (power), 13 NC (power), 14 NC (power), 15 NC (power), 16 NC (power), 17 GND (power), 18 NC (power), 19 NC (power), 20 GND/HEATSINK (power)
text: TPS75233Q Regulator

## XCF04S
designator *
pins: 1 D0, 3 CLK, 4 TDI, 5 TMS, 6 TCK, 7 ~{CF}, 8 OE/~{RESET}, 10 ~{CE}, 11 GND, 13 ~{CEO}, 17 TDO, 18 VCCINT, 19 VCCO, 20 VCCJ
text: SPI Flash PROM

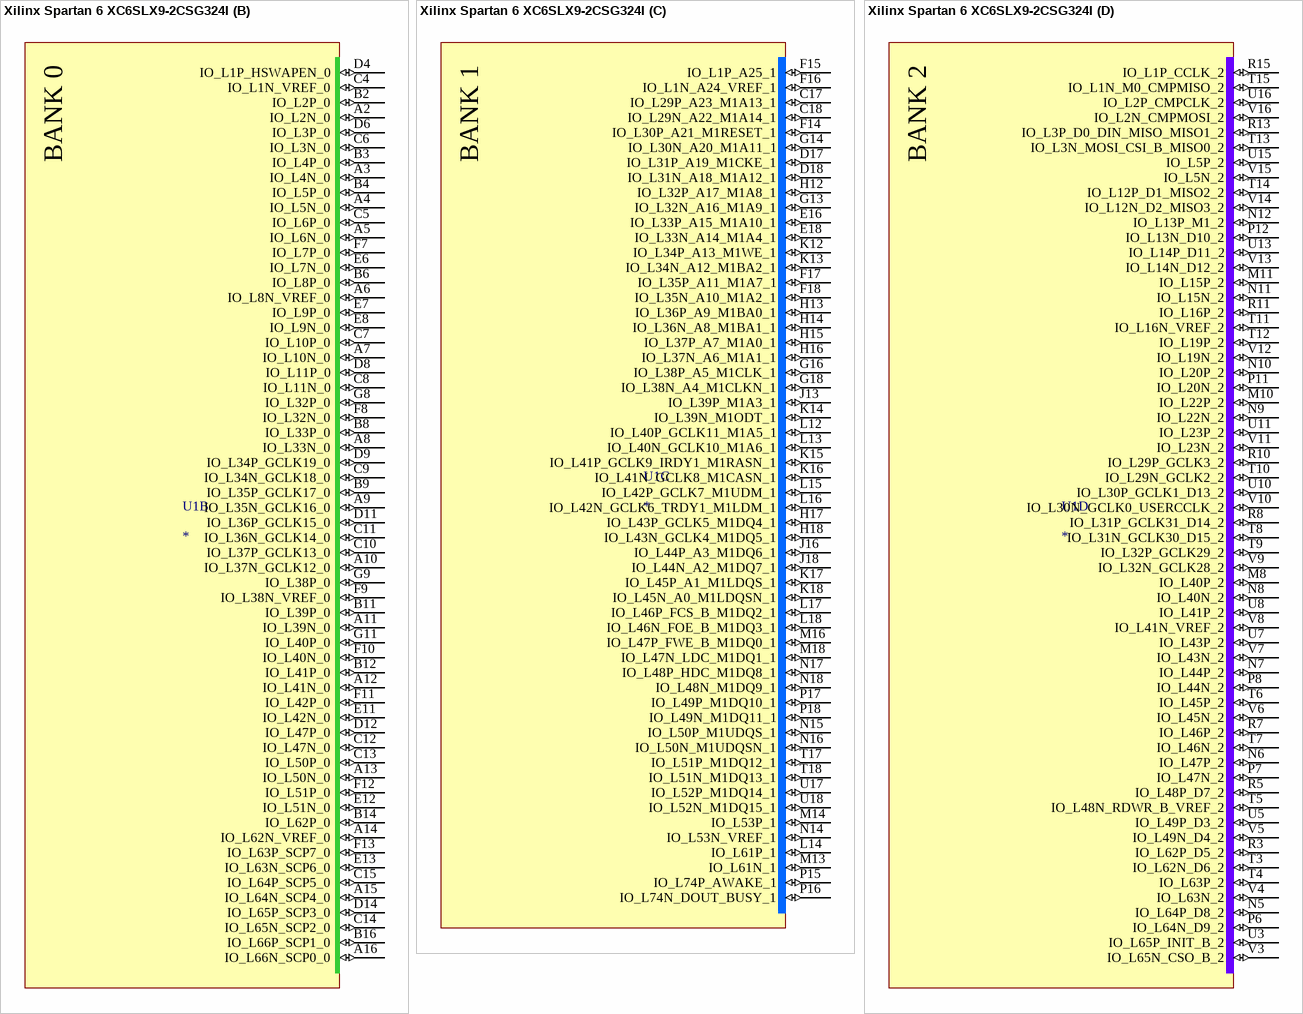
[diagram p2: symbol Xilinx Spartan 6 XC6SLX9-2CSG324I]

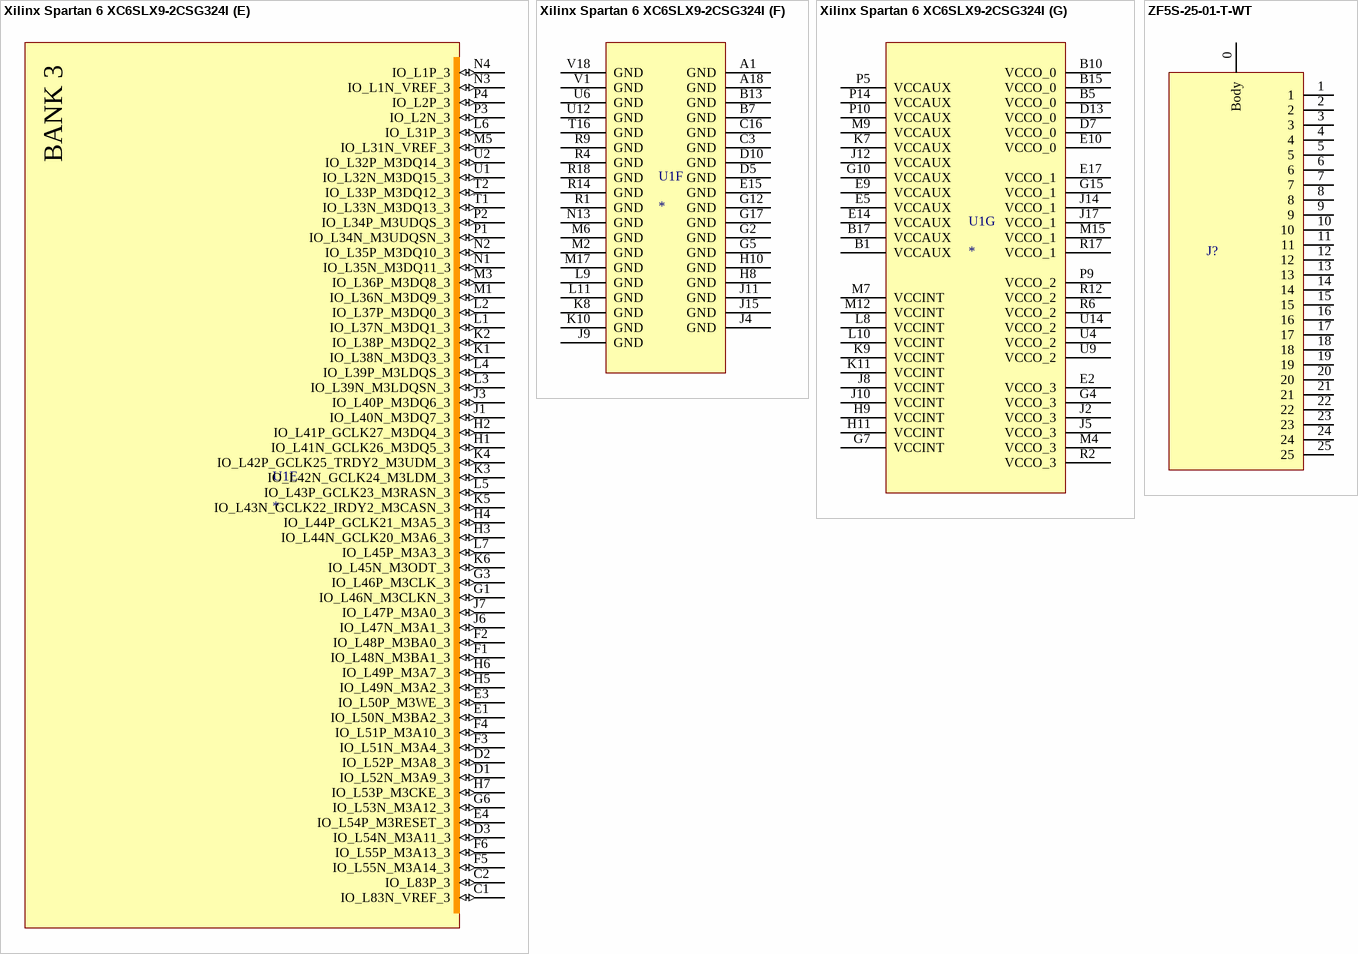
[diagram p3: symbols Xilinx Spartan 6 XC6SLX9-2CSG324I to ZF5S-25-01-T-WT]

## Xilinx Spartan 6 XC6SLX9-2CSG324I
designator U1
Xilinx Spartan 6
footprint CSG324_BGApackage_Spartan6 (BGA, 324-Leads, Body 15.00x15.00mmx1.50mm, Pitch 0.80mm)
footprint CSG324_BGApackage_Spartan6 (BGA, 324-Leads, Body 15.00x15.00mmx1.50mm, Pitch 0.80mm)
part A pins: A17 TCK (in), B18 TMS (in), D15 TDI (in), D16 TDO (out), P13 CMPCS_B_2, R16 SUSPEND (in), V2 PROGRAM_B_2 (in), V17 DONE_2 (io)
part B pins: A2 IO_L2N_0 (io), A3 IO_L4N_0 (io), A4 IO_L5N_0 (io), A5 IO_L6N_0 (io), A6 IO_L8N_VREF_0 (io), A7 IO_L10N_0 (io), A8 IO_L33N_0 (io), A9 IO_L35N_GCLK16_0 (io), A10 IO_L37N_GCLK12_0 (io), A11 IO_L39N_0 (io), A12 IO_L41N_0 (io), A13 IO_L50N_0 (io), A14 IO_L62N_VREF_0 (io), A15 IO_L64N_SCP4_0 (io), A16 IO_L66N_SCP0_0 (io), B2 IO_L2P_0 (io), B3 IO_L4P_0 (io), B4 IO_L5P_0 (io), B6 IO_L8P_0 (io), B8 IO_L33P_0 (io), B9 IO_L35P_GCLK17_0 (io), B11 IO_L39P_0 (io), B12 IO_L41P_0 (io), B14 IO_L62P_0 (io), B16 IO_L66P_SCP1_0 (io), C4 IO_L1N_VREF_0 (io), C5 IO_L6P_0 (io), C6 IO_L3N_0 (io), C7 IO_L10P_0 (io), C8 IO_L11N_0 (io), C9 IO_L34N_GCLK18_0 (io), C10 IO_L37P_GCLK13_0 (io), C11 IO_L36N_GCLK14_0 (io), C12 IO_L47N_0 (io), C13 IO_L50P_0 (io), C14 IO_L65N_SCP2_0 (io), C15 IO_L64P_SCP5_0 (io), D4 IO_L1P_HSWAPEN_0 (io), D6 IO_L3P_0 (io), D8 IO_L11P_0 (io), D9 IO_L34P_GCLK19_0 (io), D11 IO_L36P_GCLK15_0 (io), D12 IO_L47P_0 (io), D14 IO_L65P_SCP3_0 (io), E6 IO_L7N_0 (io), E7 IO_L9P_0 (io), E8 IO_L9N_0 (io), E11 IO_L42N_0 (io), E12 IO_L51N_0 (io), E13 IO_L63N_SCP6_0 (io), F7 IO_L7P_0 (io), F8 IO_L32N_0 (io), F9 IO_L38N_VREF_0 (io), F10 IO_L40N_0 (io), F11 IO_L42P_0 (io), F12 IO_L51P_0 (io), F13 IO_L63P_SCP7_0 (io), G8 IO_L32P_0 (io), G9 IO_L38P_0 (io), G11 IO_L40P_0 (io)
part C pins: C17 IO_L29P_A23_M1A13_1 (io), C18 IO_L29N_A22_M1A14_1 (io), D17 IO_L31P_A19_M1CKE_1 (io), D18 IO_L31N_A18_M1A12_1 (io), E16 IO_L33P_A15_M1A10_1 (io), E18 IO_L33N_A14_M1A4_1 (io), F14 IO_L30P_A21_M1RESET_1 (io), F15 IO_L1P_A25_1 (io), F16 IO_L1N_A24_VREF_1 (io), F17 IO_L35P_A11_M1A7_1 (io), F18 IO_L35N_A10_M1A2_1 (io), G13 IO_L32N_A16_M1A9_1 (io), G14 IO_L30N_A20_M1A11_1 (io), G16 IO_L38P_A5_M1CLK_1 (io), G18 IO_L38N_A4_M1CLKN_1 (io), H12 IO_L32P_A17_M1A8_1 (io), H13 IO_L36P_A9_M1BA0_1 (io), H14 IO_L36N_A8_M1BA1_1 (io), H15 IO_L37P_A7_M1A0_1 (io), H16 IO_L37N_A6_M1A1_1 (io), H17 IO_L43P_GCLK5_M1DQ4_1 (io), H18 IO_L43N_GCLK4_M1DQ5_1 (io), J13 IO_L39P_M1A3_1 (io), J16 IO_L44P_A3_M1DQ6_1 (io), J18 IO_L44N_A2_M1DQ7_1 (io), K12 IO_L34P_A13_M1WE_1 (io), K13 IO_L34N_A12_M1BA2_1 (io), K14 IO_L39N_M1ODT_1 (io), K15 IO_L41P_GCLK9_IRDY1_M1RASN_1 (io), K16 IO_L41N_GCLK8_M1CASN_1 (io), K17 IO_L45P_A1_M1LDQS_1 (io), K18 IO_L45N_A0_M1LDQSN_1 (io), L12 IO_L40P_GCLK11_M1A5_1 (io), L13 IO_L40N_GCLK10_M1A6_1 (io), L14 IO_L61P_1 (io), L15 IO_L42P_GCLK7_M1UDM_1 (io), L16 IO_L42N_GCLK6_TRDY1_M1LDM_1 (io), L17 IO_L46P_FCS_B_M1DQ2_1 (io), L18 IO_L46N_FOE_B_M1DQ3_1 (io), M13 IO_L61N_1 (io), M14 IO_L53P_1 (io), M16 IO_L47P_FWE_B_M1DQ0_1 (io), M18 IO_L47N_LDC_M1DQ1_1 (io), N14 IO_L53N_VREF_1 (io), N15 IO_L50P_M1UDQS_1 (io), N16 IO_L50N_M1UDQSN_1 (io), N17 IO_L48P_HDC_M1DQ8_1 (io), N18 IO_L48N_M1DQ9_1 (io), P15 IO_L74P_AWAKE_1 (io), P16 IO_L74N_DOUT_BUSY_1 (io), P17 IO_L49P_M1DQ10_1 (io), P18 IO_L49N_M1DQ11_1 (io), T17 IO_L51P_M1DQ12_1 (io), T18 IO_L51N_M1DQ13_1 (io), U17 IO_L52P_M1DQ14_1 (io), U18 IO_L52N_M1DQ15_1 (io)
part D pins: M8 IO_L40P_2 (io), M10 IO_L22P_2 (io), M11 IO_L15P_2 (io), N5 IO_L64P_D8_2 (io), N6 IO_L47P_2 (io), N7 IO_L44P_2 (io), N8 IO_L40N_2 (io), N9 IO_L22N_2 (io), N10 IO_L20P_2 (io), N11 IO_L15N_2 (io), N12 IO_L13P_M1_2 (io), P6 IO_L64N_D9_2 (io), P7 IO_L47N_2 (io), P8 IO_L44N_2 (io), P11 IO_L20N_2 (io), P12 IO_L13N_D10_2 (io), R3 IO_L62P_D5_2 (io), R5 IO_L48P_D7_2 (io), R7 IO_L46P_2 (io), R8 IO_L31P_GCLK31_D14_2 (io), R10 IO_L29P_GCLK3_2 (io), R11 IO_L16P_2 (io), R13 IO_L3P_D0_DIN_MISO_MISO1_2 (io), R15 IO_L1P_CCLK_2 (io), T3 IO_L62N_D6_2 (io), T4 IO_L63P_2 (io), T5 IO_L48N_RDWR_B_VREF_2 (io), T6 IO_L45P_2 (io), T7 IO_L46N_2 (io), T8 IO_L31N_GCLK30_D15_2 (io), T9 IO_L32P_GCLK29_2 (io), T10 IO_L29N_GCLK2_2 (io), T11 IO_L16N_VREF_2 (io), T12 IO_L19P_2 (io), T13 IO_L3N_MOSI_CSI_B_MISO0_2 (io), T14 IO_L12P_D1_MISO2_2 (io), T15 IO_L1N_M0_CMPMISO_2 (io), U3 IO_L65P_INIT_B_2 (io), U5 IO_L49P_D3_2 (io), U7 IO_L43P_2 (io), U8 IO_L41P_2 (io), U10 IO_L30P_GCLK1_D13_2 (io), U11 IO_L23P_2 (io), U13 IO_L14P_D11_2 (io), U15 IO_L5P_2 (io), U16 IO_L2P_CMPCLK_2 (io), V3 IO_L65N_CSO_B_2 (io), V4 IO_L63N_2 (io), V5 IO_L49N_D4_2 (io), V6 IO_L45N_2 (io), V7 IO_L43N_2 (io), V8 IO_L41N_VREF_2 (io), V9 IO_L32N_GCLK28_2 (io), V10 IO_L30N_GCLK0_USERCCLK_2 (io), V11 IO_L23N_2 (io), V12 IO_L19N_2 (io), V13 IO_L14N_D12_2 (io), V14 IO_L12N_D2_MISO3_2 (io), V15 IO_L5N_2 (io), V16 IO_L2N_CMPMOSI_2 (io)
part E pins: C1 IO_L83N_VREF_3 (io), C2 IO_L83P_3 (io), D1 IO_L52N_M3A9_3 (io), D2 IO_L52P_M3A8_3 (io), D3 IO_L54N_M3A11_3 (io), E1 IO_L50N_M3BA2_3 (io), E3 IO_L50P_M3WE_3 (io), E4 IO_L54P_M3RESET_3 (io), F1 IO_L48N_M3BA1_3 (io), F2 IO_L48P_M3BA0_3 (io), F3 IO_L51N_M3A4_3 (io), F4 IO_L51P_M3A10_3 (io), F5 IO_L55N_M3A14_3 (io), F6 IO_L55P_M3A13_3 (io), G1 IO_L46N_M3CLKN_3 (io), G3 IO_L46P_M3CLK_3 (io), G6 IO_L53N_M3A12_3 (io), H1 IO_L41N_GCLK26_M3DQ5_3 (io), H2 IO_L41P_GCLK27_M3DQ4_3 (io), H3 IO_L44N_GCLK20_M3A6_3 (io), H4 IO_L44P_GCLK21_M3A5_3 (io), H5 IO_L49N_M3A2_3 (io), H6 IO_L49P_M3A7_3 (io), H7 IO_L53P_M3CKE_3 (io), J1 IO_L40N_M3DQ7_3 (io), J3 IO_L40P_M3DQ6_3 (io), J6 IO_L47N_M3A1_3 (io), J7 IO_L47P_M3A0_3 (io), K1 IO_L38N_M3DQ3_3 (io), K2 IO_L38P_M3DQ2_3 (io), K3 IO_L42N_GCLK24_M3LDM_3 (io), K4 IO_L42P_GCLK25_TRDY2_M3UDM_3 (io), K5 IO_L43N_GCLK22_IRDY2_M3CASN_3 (io), K6 IO_L45N_M3ODT_3 (io), L1 IO_L37N_M3DQ1_3 (io), L2 IO_L37P_M3DQ0_3 (io), L3 IO_L39N_M3LDQSN_3 (io), L4 IO_L39P_M3LDQS_3 (io), L5 IO_L43P_GCLK23_M3RASN_3 (io), L6 IO_L31P_3 (io), L7 IO_L45P_M3A3_3 (io), M1 IO_L36N_M3DQ9_3 (io), M3 IO_L36P_M3DQ8_3 (io), M5 IO_L31N_VREF_3 (io), N1 IO_L35N_M3DQ11_3 (io), N2 IO_L35P_M3DQ10_3 (io), N3 IO_L1N_VREF_3 (io), N4 IO_L1P_3 (io), P1 IO_L34N_M3UDQSN_3 (io), P2 IO_L34P_M3UDQS_3 (io), P3 IO_L2N_3 (io), P4 IO_L2P_3 (io), T1 IO_L33N_M3DQ13_3 (io), T2 IO_L33P_M3DQ12_3 (io), U1 IO_L32N_M3DQ15_3 (io), U2 IO_L32P_M3DQ14_3 (io)
part F pins: A1 GND (power), A18 GND (power), B7 GND (power), B13 GND (power), C3 GND (power), C16 GND (power), D5 GND (power), D10 GND (power), E15 GND (power), G2 GND (power), G5 GND (power), G12 GND (power), G17 GND (power), H8 GND (power), H10 GND (power), J4 GND (power), J9 GND (power), J11 GND (power), J15 GND (power), K8 GND (power), K10 GND (power), L9 GND (power), L11 GND (power), M2 GND (power), M6 GND (power), M17 GND (power), N13 GND (power), R1 GND (power), R4 GND (power), R9 GND (power), R14 GND (power), R18 GND (power), T16 GND (power), U6 GND (power), U12 GND (power), V1 GND (power), V18 GND (power)
part G pins: B1 VCCAUX (power), B5 VCCO_0 (power), B10 VCCO_0 (power), B15 VCCO_0 (power), B17 VCCAUX (power), D7 VCCO_0 (power), D13 VCCO_0 (power), E2 VCCO_3 (power), E5 VCCAUX (power), E9 VCCAUX (power), E10 VCCO_0 (power), E14 VCCAUX (power), E17 VCCO_1 (power), G4 VCCO_3 (power), G7 VCCINT (power), G10 VCCAUX (power), G15 VCCO_1 (power), H9 VCCINT (power), H11 VCCINT (power), J2 VCCO_3 (power), J5 VCCO_3 (power), J8 VCCINT (power), J10 VCCINT (power), J12 VCCAUX (power), J14 VCCO_1 (power), J17 VCCO_1 (power), K7 VCCAUX (power), K9 VCCINT (power), K11 VCCINT (power), L8 VCCINT (power), L10 VCCINT (power), M4 VCCO_3 (power), M7 VCCINT (power), M9 VCCAUX (power), M12 VCCINT (power), M15 VCCO_1 (power), P5 VCCAUX (power), P9 VCCO_2 (power), P10 VCCAUX (power), P14 VCCAUX (power), R2 VCCO_3 (power), R6 VCCO_2 (power), R12 VCCO_2 (power), R17 VCCO_1 (power), U4 VCCO_2 (power), U9 VCCO_2 (power), U14 VCCO_2 (power)
part B text: BANK 0
part C text: BANK 1
part D text: BANK 2
part E text: BANK 3

## ZF5S-25-01-T-WT
designator J?  (value not drawn)
CONN FFC BOTTOM 25POS 0.50MM R/A; Manufacturer: Samtec Inc.; Connector/Contact Type: Contacts, Bottom; Number of Positions: 25; Pitch: 0.020" (0.50mm); Locking Feature: Slide Lock; Actuator Material: Liquid Crystal Polymer (LCP); Current Rating: 1.4A per Contact; Supplier 1: Digi-Key; Manufacturer Part Number: ZF5S-25-01-T-WT; RoHS: RoHS Compliant; Category: Connectors, Interconnects; Stock 1: 0; Pricing 1: 1=2.31 (USD); Packaging: Tube; Flat Flex Type: FFC; Mounting Type: Surface Mount, Right Angle; Termination: Solder; FFC, FCB Thickness: -; Height Above Board: 0.079" (2.00mm); Cable End Type: -; Contact Material: Phosphor Bronze; Contact Finish: Tin; Housing Material: Liquid Crystal Polymer (LCP); Features: Solder Retention, Zero Insertion Force (ZIF); Voltage Rating: -; Operating Temperature: -55°C ~ 105°C; Material Flammability Rating: -; ComponentLink1URL: http://suddendocs.samtec.com/prints/zf5s-xx-xx-xx-wt-x-xx-mkt.pdf; ComponentLink1Description: http://suddendocs.samtec.com/prints/zf5s-xx-xx-xx-wt-x-xx-mkt.pdf; Supplier Part Number 1: ZF5S-30-01-T-WT-ND
footprint ZF5S-25-01-XX-WT-XX
pins: 0 Body, 1, 2, 3, 4, 5, 6, 7, 8, 9, 10, 11, 12, 13, 14, 15, 16, 17, 18, 19, 20, 21, 22, 23, 24, 25